# Altium footprint library 104239-1430.PcbLib: 1 footprints
Each footprint in its own frame and in the unit in brackets; x right, y up, seen from the top. Pads: shape width x height; smd on the part's side, far side on the other; paste and mask are expansions set on the pad; w line width, h text height; cw(c..) or ccw(c..) is an arc to the next point about the centre after c.
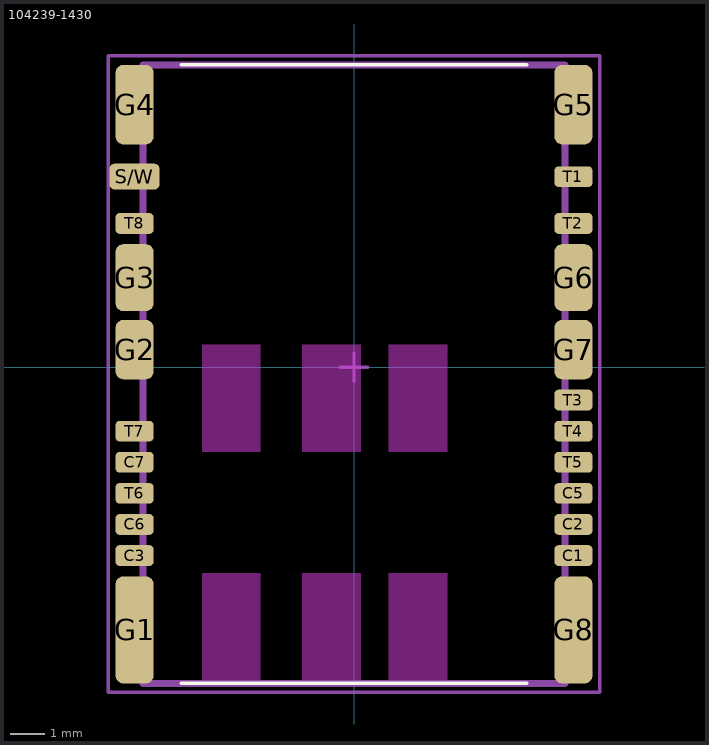
[diagram p0: the footprint, top view; thin cyan lines are the x and y axes]

## 104239-1430 [mm]
pads (23):
  rrect40% 1.1x0.6 smd paste-0.02 mask+0.05: C1(6.35,-5.45) C2(6.35,-4.55) C3(-6.35,-5.45) C5(6.35,-3.65) C6(-6.35,-4.55) C7(-6.35,-2.75) T1(6.35,5.515) T2(6.35,4.16) T3(6.35,-0.95) T4(6.35,-1.85) T5(6.35,-2.75) T6(-6.35,-3.65) T7(-6.35,-1.85) T8(-6.35,4.16)
  rrect40% 1.1x3.1 smd paste-0.02 mask+0.05: G1(-6.35,-7.6) G8(6.35,-7.6)
  rrect40% 1.1x1.72 smd paste-0.02 mask+0.05: G2(-6.35,0.51) G7(6.35,0.51)
  rrect40% 1.1x1.94 smd paste-0.02 mask+0.05: G3(-6.35,2.59) G6(6.35,2.59)
  rrect40% 1.1x2.3 smd paste-0.02 mask+0.05: G4(-6.35,7.6) G5(6.35,7.6)
  rrect40% 1.45x0.75 smd paste-0.02 mask+0.05: S/W(-6.35,5.515)
Top Layer keep-out:
  rectangle: -1.5,-9.05 0.2,-5.95
  region: 2.7,-5.95 1,-5.95 1,-9.05 2.7,-9.05
  region: -2.7,-5.95 -4.4,-5.95 -4.4,-9.05 -2.7,-9.05
  rectangle: -1.5,-2.45 0.2,0.65
  region: 2.7,0.65 1,0.65 1,-2.45 2.7,-2.45
  region: -2.7,0.65 -4.4,0.65 -4.4,-2.45 -2.7,-2.45
Top Overlay:
  lines w0.1: -5,-9.15 5,-9.15 ; -5,8.75 5,8.75
Top Assembly:
  lines w0.2: -6.1,-9.15 -6.1,8.75 6.1,8.75 6.1,-9.15 -6.1,-9.15
Top Courtyard:
  lines w0.1: -0.4,0 0.4,0 ; 0,-0.4 0,0.4 ; -7.112,-9.404 -7.112,9.011 7.112,9.011 7.112,-9.404 -7.112,-9.404
3D body "1042391430--3DModel-STEP-56544.STEP": height 2.05, standoff 0, extent -6.45,-9.15 6.45,8.75